# EAGLE library part DAC:AD9740(10-BIT-PAR-210MSPS) (library QuantumOptics)
AD9740, AnaDev, DAC 10-bit parallel 210MSPS. Drop-in replacement for AD9742 12-bit and AD9744 14-bit. http://www.analog.com/en/digital-to-analog-converters/da-converters/ad9740/products/product.html
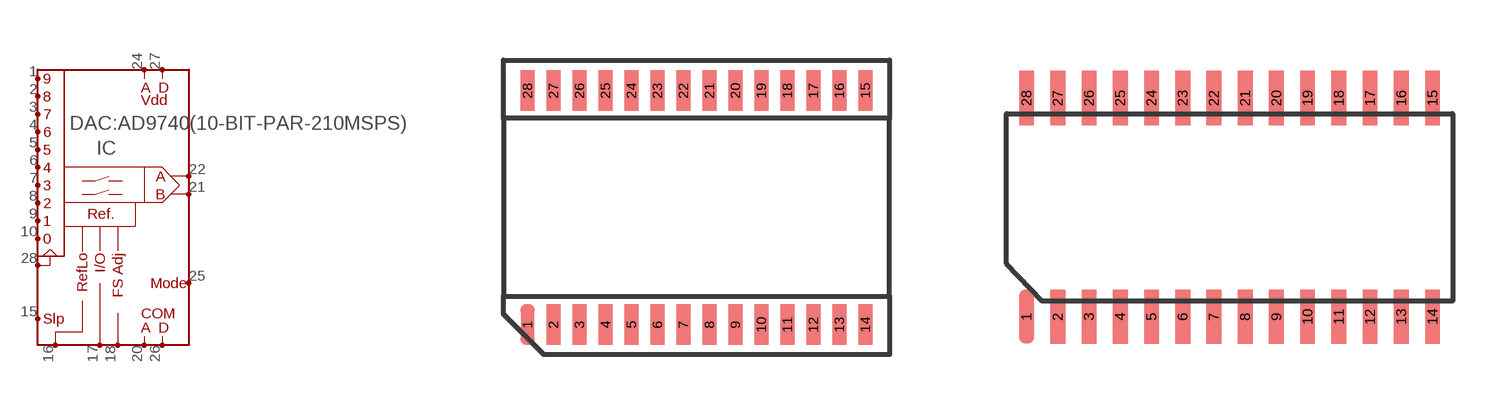
[diagram p111: symbol with the pads of TSSOP-28; footprints TSSOP-28, SOIC28]

Designator prefix IC

## DAC:AD9740(10-BIT-PAR-210MSPS)-TSSOP28  [TSSOP-28]
1  D9  in
2  D8  in
3  D7  in
4  D6  in
5  D5  in
6  D4  in
7  D3  in
8  D2  in
9  D1  in
10  D0  in
15  SLEEP  in
16  REFLO  in
17  REF
18  FSADJ
20  ACOM
21  IOUTB  out
22  IOUTA  out
24  AVDD
25  MODE
26  DCOM
27  DVDD
28  CLK  in

## DAC:AD9740(10-BIT-PAR-210MSPS)-SOIC28  [SOIC28]
Pads as for TSSOP-28

## Footprint TSSOP-28 (pad centres in mm)
TSSOP-28, pins 0.65mm c-c spacing, nominal 6.4mm rows.
smd 0.356 x 1.016: 1 0,-5.85; 2 0.65,-5.85; 3 1.3,-5.85; 4 1.95,-5.85; 5 2.6,-5.85; 6 3.25,-5.85; 7 3.9,-5.85; 8 4.55,-5.85; 9 5.2,-5.85; 10 5.85,-5.85; 11 6.5,-5.85; 12 7.15,-5.85; 13 7.8,-5.85; 14 8.45,-5.85; 15 8.45,0; 16 7.8,0; 17 7.15,0; 18 6.5,0; 19 5.85,0; 20 5.2,0; 21 4.55,0; 22 3.9,0; 23 3.25,0; 24 2.6,0; 25 1.95,0; 26 1.3,0; 27 0.65,0; 28 0,0

## Footprint SOIC28 (pad centres in mm)
SOIC-28, TI's DW package, 0.05" pad spacing with 10mm (0.394") wide case and 10.63WOA.
smd 0.6 x 2.2: 1 -8.255,-4.445; 2 -6.985,-4.445; 3 -5.715,-4.445; 4 -4.445,-4.445; 5 -3.175,-4.445; 6 -1.905,-4.445; 7 -0.635,-4.445; 8 0.635,-4.445; 9 1.905,-4.445; 10 3.175,-4.445; 11 4.445,-4.445; 12 5.715,-4.445; 13 6.985,-4.445; 14 8.255,-4.445; 15 8.255,4.445; 16 6.985,4.445; 17 5.715,4.445; 18 4.445,4.445; 19 3.175,4.445; 20 1.905,4.445; 21 0.635,4.445; 22 -0.635,4.445; 23 -1.905,4.445; 24 -3.175,4.445; 25 -4.445,4.445; 26 -5.715,4.445; 27 -6.985,4.445; 28 -8.255,4.445